# EAGLE library part MINI_SWITCH (library fmc)
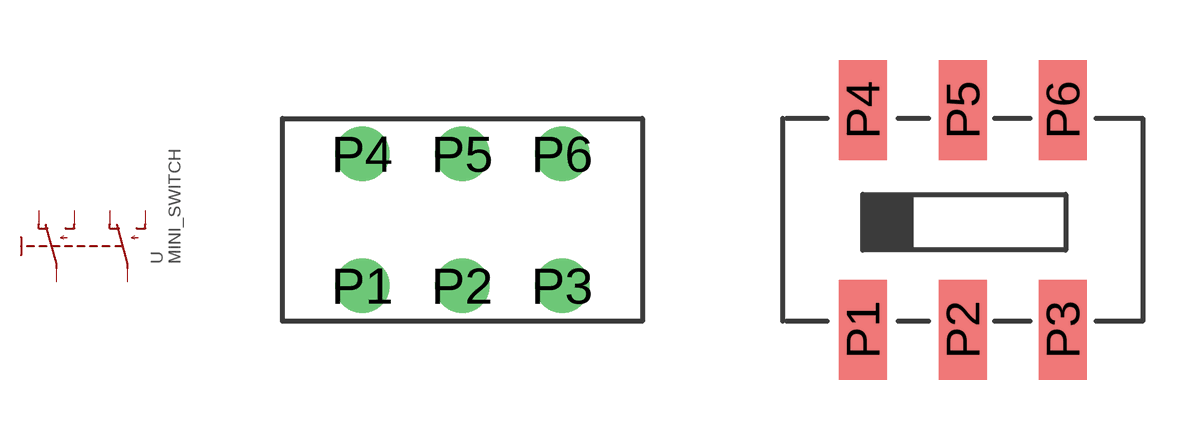
[diagram p1: symbol with the pads of JS202011CQN; footprints JS202011CQN, JS202011SCQN]

Designator prefix -

## MINI_SWITCHTHR  [JS202011CQN]
P1  O  pas
P2  P  pas
P3  S  pas
P4  O1  pas
P5  P1  pas
P6  S1  pas

## MINI_SWITCHSMD  [JS202011SCQN]
Pads as for JS202011CQN

## Footprint JS202011CQN (pad centres in mm)
drill 0.85: P1 0,-1.65; P2 2.5,-1.65; P3 5,-1.65; P4 0,1.65; P5 2.5,1.65; P6 5,1.65

## Footprint JS202011SCQN (pad centres in mm)
smd 1.2 x 2.5: P1 0,-2.75; P2 2.5,-2.75; P3 5,-2.75; P4 0,2.75; P5 2.5,2.75; P6 5,2.75